# EAGLE library part A4952 (library SchmalzHausPublic)
Allegro A4952 DC motor driver
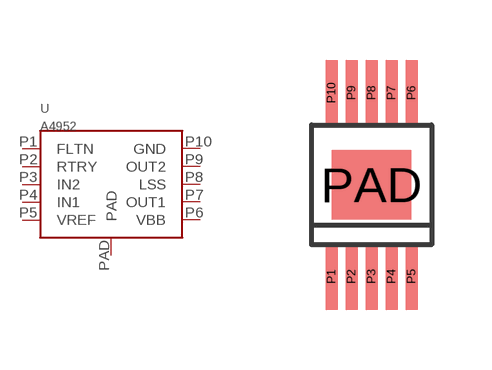
[diagram p6: symbol with the pads of A4952; footprint A4952]

Designator prefix -

## A4952  [A4952]
P1  FLTN
P2  RTRY
P3  IN2
P4  IN1
P5  VREF
P6  VBB
P7  OUT1
P8  LSS
P9  OUT2
P10  GND
PAD  PAD

## Footprint A4952 (pad centres in mm)
Allegro A4952 motor driver
smd 0.3 x 1.65: P1 -1,-2.3; P2 -0.5,-2.3; P3 0,-2.3; P4 0.5,-2.3; P5 1,-2.3; P6 1,2.3; P7 0.5,2.3; P8 0,2.3; P9 -0.5,2.3; P10 -1,2.3
smd 1.98 x 1.73: PAD 0,0